# EAGLE library part SQJ148EP-T1_GE3 (library SQJ148EP-T1_GE3)
MOSFET N Ch 40Vds 20Vgs AEC-Q101 Qualified Source: Datasheet <http://www.vishay.com/docs/75162/sqj148ep.pdf>
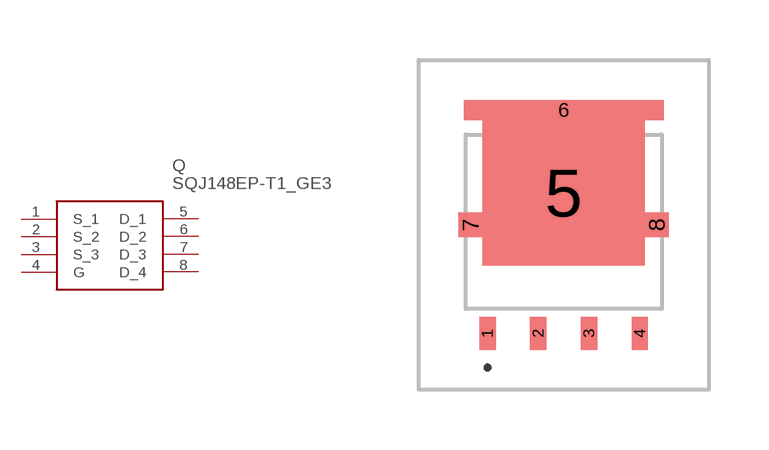
[diagram p0: symbol with the pads of SQJ148EPT1_GE3; footprint SQJ148EPT1_GE3]

Designator prefix Q

## SQJ148EP-T1_GE3 (Arrow_Part_Number: SQJ148EP-T1_GE3; Arrow_Price-Stock: https://www.arrow.com/en/products/sqj148ep-t1-ge3/vishay?utm_currency=USD&region=nac; Description: MOSFET N Ch 40Vds 20Vgs AEC-Q101 Qualified; Height: 1.267mm; Manufacturer_Name: Vishay; Manufacturer_Part_Number: SQJ148EP-T1_GE3; Mouser_Part_Number: 78-SQJ148EP-T1_GE3; Mouser_Price-Stock: https://www.mouser.co.uk/ProductDetail/Vishay-Siliconix/SQJ148EP-T1_GE3?qs=G1ssh2j%252Bqz5yrigayqaTsg%3D%3D)  [SQJ148EPT1_GE3]
1  S_1
2  S_2
3  S_3
4  G
5  D_1
6  D_2
7  D_3
8  D_4

## Footprint SQJ148EPT1_GE3 (pad centres in mm)
SQJ148EP-T1_GE3-3
smd 0.41 x 0.82: 1 -1.905,-2.793; 2 -0.635,-2.793; 3 0.635,-2.793; 4 1.905,-2.793
smd 4.061 x 3.63: 5 0,0.723
smd 5 x 0.51: 6 0,2.793
smd 0.595 x 0.61: 7 -2.328,-0.077; 8 2.328,-0.077